# EAGLE library part TPS6211X (library evansLibrary)
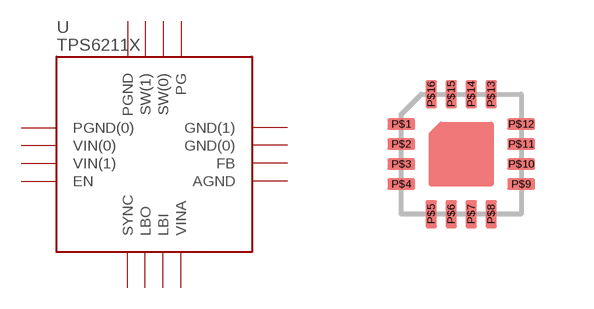
[diagram p5: symbol with the pads of E_QFN16; footprint E_QFN16]

Designator prefix -

## TPS6211XQFN16  [E_QFN16]
P$1  PGND(0)
P$2  VIN(0)
P$3  VIN(1)
P$4  EN
P$5  SYNC
P$6  LBO
P$7  LBI
P$8  VINA
P$9  AGND
P$10  FB
P$11  GND(0)
P$12  GND(1)
P$13  PG
P$14  SW(0)
P$15  SW(1)
P$16  PGND

## Footprint E_QFN16 (pad centres in mm)
smd 0.7 x 0.28: P$1 -1.5,0.75; P$2 -1.5,0.25; P$3 -1.5,-0.25; P$4 -1.5,-0.75; P$9 1.5,-0.75; P$10 1.5,-0.25; P$11 1.5,0.25; P$12 1.5,0.75
smd 0.28 x 0.7: P$5 -0.75,-1.5; P$6 -0.25,-1.5; P$7 0.25,-1.5; P$8 0.75,-1.5; P$13 0.75,1.5; P$14 0.25,1.5; P$15 -0.25,1.5; P$16 -0.75,1.5